# EAGLE library part APA102 (library PCBusinessCard)
APA102/DotStar Pixels VCC: 5V DC Refresh Rate: 400Hz
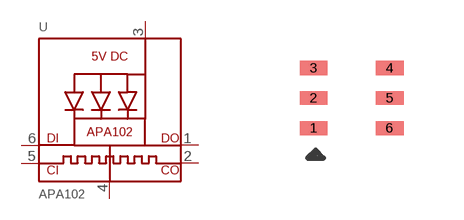
[diagram p0: symbol with the pads of APA102_2020; footprint APA102_2020]

Designator prefix -

## APA1022020  [APA102_2020]
1  DO  out
2  CKO  out
3  VDD  pwr
4  GND  pwr
5  CKI  in
6  DI  in

## Footprint APA102_2020 (pad centres in mm)
smd 0.7 x 0.35: 1 -0.95,-0.75; 2 -0.95,0; 3 -0.95,0.75; 4 0.95,0.75; 5 0.95,0; 6 0.95,-0.75